# Altium footprint library CUI_TBP04R2-500-02BE.PcbLib: 1 footprints
Each footprint in its own frame and in the unit in brackets; x right, y up, seen from the top. Pads: shape width x height; smd on the part's side, far side on the other; paste and mask are expansions set on the pad; w line width, h text height; cw(c..) or ccw(c..) is an arc to the next point about the centre after c.
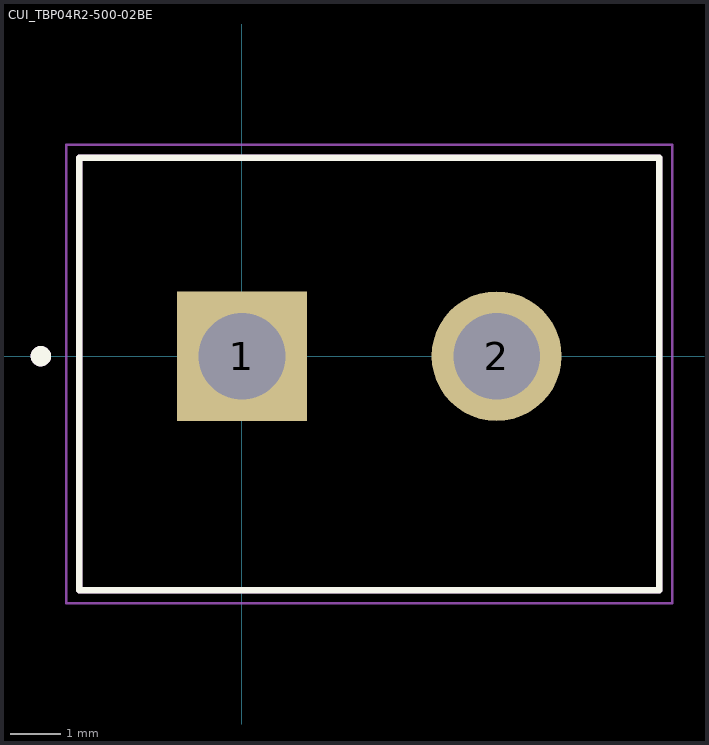
[diagram p0: the footprint, top view; thin cyan lines are the x and y axes]

## CUI_TBP04R2-500-02BE [mm]
height 12
pads (2):
  rect 2.55x2.55 / inner round 2.55 / far side rect 2.55x2.55 hole 1.7 mask+0.102: 1(0,0)
  round 2.55 hole 1.7 mask+0.102: 2(5,0)
Top Overlay:
  circle w0.2: c-3.95,0 r0.1
  lines w0.127: -3.2,-4.6 8.2,-4.6 8.2,3.9 -3.2,3.9 -3.2,-4.6
Assembly Top:
  circle w0.2: c-3.95,0 r0.1
  lines w0.127: -3.2,-4.6 8.2,-4.6 8.2,3.9 -3.2,3.9 -3.2,-4.6
Courtyard Top:
  lines w0.05: -3.45,-4.85 -3.45,4.15 8.45,4.15 8.45,-4.85 -3.45,-4.85
3D body "step_temp.STEP": height 12.19, standoff -3.81, extent -3.145,-3.996 8.255,4.504